# Altium footprint library USB.PcbLib: 44 footprints (part 3 of 3)
Each footprint in its own frame and in the unit in brackets; x right, y up, seen from the top. Pads: shape width x height; smd on the part's side, far side on the other; paste and mask are expansions set on the pad; w line width, h text height; cw(c..) or ccw(c..) is an arc to the next point about the centre after c.
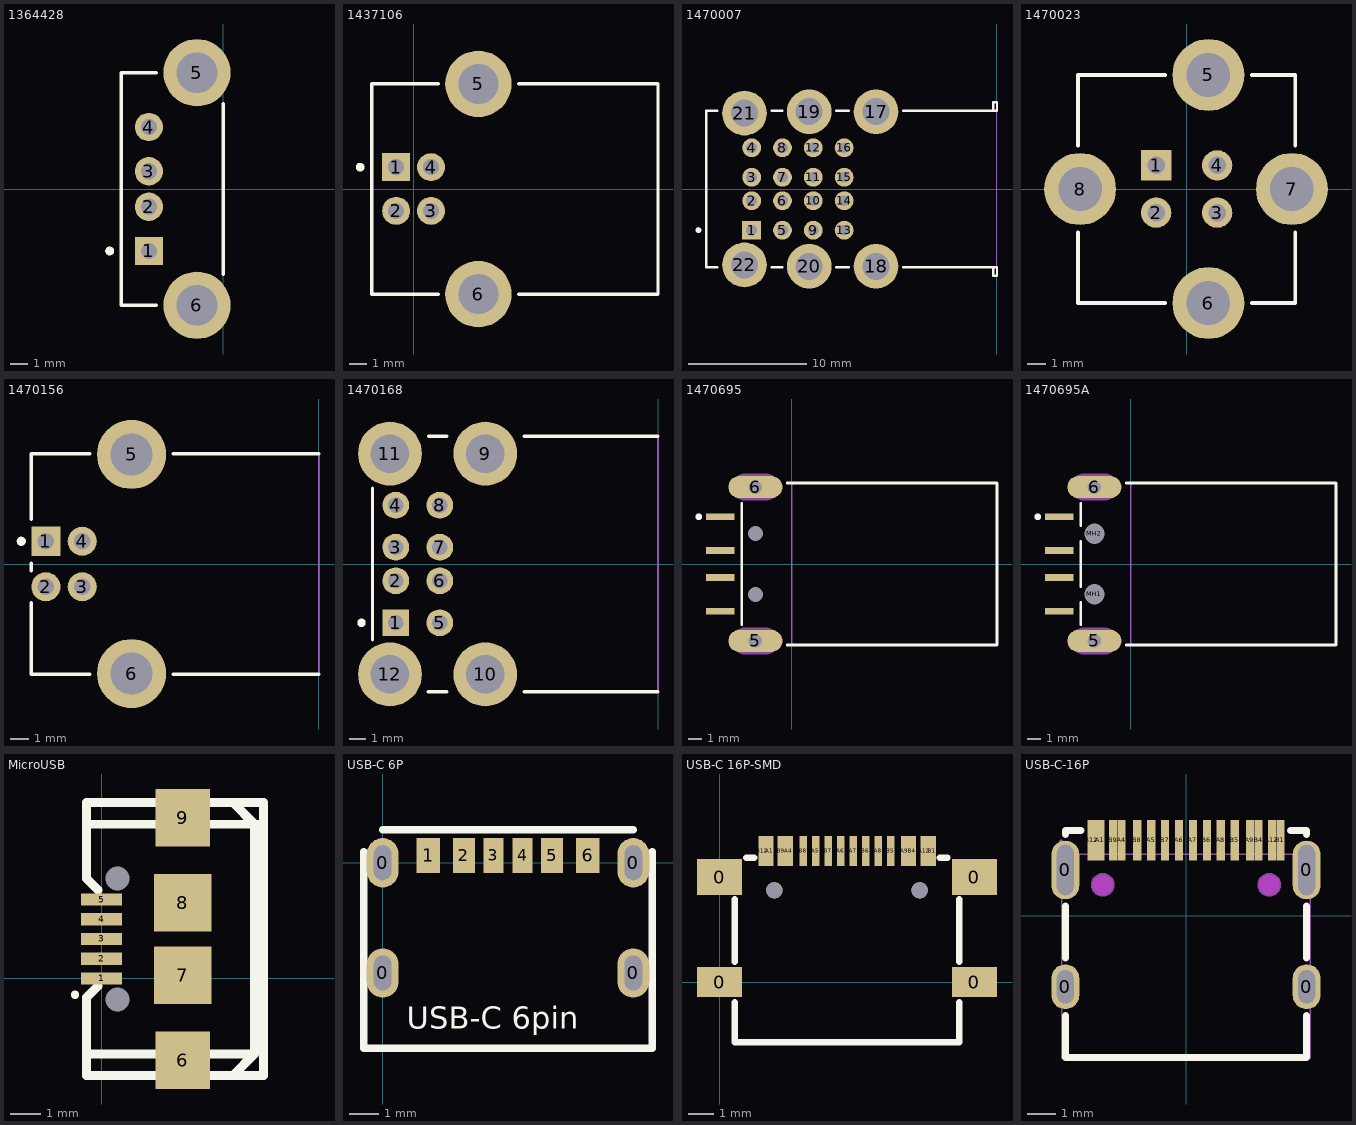
[diagram p2: the footprints below, top view; thin cyan lines are the x and y axes]

## 1364428 [mm] "Connector; USB1.1, Type A, Thru-Hole; 4 Position; Vertical"
height 15
pads (6):
  rect 1.6x1.6 hole 0.92: 1(-4.19,-3.5)
  round 1.6 hole 0.92: 2(-4.19,-1) 3(-4.19,1) 4(-4.19,3.5)
  round 3.8 hole 2.3: 5(-1.48,6.57) 6(-1.48,-6.57)
Top Overlay:
  circle w0.25: c-6.41,-3.5 r0.125
  lines w0.2: -3.78,-6.57 -5.76,-6.57 -5.76,6.57 -3.78,6.57 ; 0,-4.81 0,4.81

## 1437106 [mm] "Connector; USB1.1, Type B, Thru-Hole; 4 Position; Right Angle"
height 11.1
pads (6):
  rect 1.6x1.6 hole 0.92: 1(-1,1.25)
  round 1.6 hole 0.92: 2(-1,-1.25) 3(1,-1.25) 4(1,1.25)
  round 3.8 hole 2.3: 5(3.71,6.02) 6(3.71,-6.02)
Top Overlay:
  circle w0.25: c-3.06,1.25 r0.125
  lines w0.2: 1.41,-6.02 -2.41,-6.02 -2.41,6.02 1.41,6.02 ; 6.01,-6.02 13.99,-6.02 13.99,6.02 6.01,6.02

## 1470007 [mm] "Connector; USB1.1, Type A, Thru-Hole; 4x4x4x4 Position; Right Angle"
height 32.84
pads (22):
  rect 1.6x1.6 hole 0.92: 1(-20.85,-3.5)
  round 1.6 hole 0.92: 2(-20.85,-1) 3(-20.85,1) 4(-20.85,3.5) 5(-18.23,-3.5) 6(-18.23,-1) 7(-18.23,1) 8(-18.23,3.5) 9(-15.61,-3.5) 10(-15.61,-1) 11(-15.61,1) 12(-15.61,3.5) 13(-12.99,-3.5) 14(-12.99,-1) 15(-12.99,1) 16(-12.99,3.5)
  round 3.8 hole 2.3: 17(-10.28,6.57) 18(-10.28,-6.57) 19(-15.96,6.57) 20(-15.96,-6.57) 21(-21.46,6.45) 22(-21.46,-6.45)
Top Overlay:
  circle w0.25: c-25.37,-3.5 r0.125
  lines w0.2: -23.76,-6.65 -24.72,-6.65 -24.72,6.65 -23.76,6.65 ; -19.16,-6.65 -18.26,-6.65 ; -19.16,6.65 -18.26,6.65 ; -13.66,-6.65 -12.58,-6.65 ; -13.66,6.65 -12.58,6.65 ; -7.98,-6.65 0,-6.65 0,-7.37 -0.32,-7.37 -0.32,-6.65 ; -7.98,6.65 0,6.65 0,7.37 -0.32,7.37 -0.32,6.65
Mechanical 1:
  lines w0.1: 0,-6.65 0,6.65
  text "PCB Edge" at -0.258,-6.292 h0.2

## 1470023 [mm] "Connector; USB1.1, Type B, Thru-Hole; 4 Position; Vertical"
height 15.62
pads (8):
  rect 1.6x1.6 hole 0.92: 1(-1.61,1.25)
  round 1.6 hole 0.92: 2(-1.61,-1.25) 3(1.61,-1.25) 4(1.61,1.25)
  round 3.8 hole 2.3: 5(1.15,6.02) 6(1.15,-6.02) 7(5.56,0) 8(-5.63,0)
Top Overlay:
  lines w0.2: -5.73,-2.3 -5.73,-6.02 -1.15,-6.02 ; -5.73,2.3 -5.73,6.02 -1.15,6.02 ; 3.45,-6.02 5.73,-6.02 5.73,-2.3 ; 3.45,6.02 5.73,6.02 5.73,2.3

## 1470156 [mm] "Connector; USB1.1, Type B, Thru-Hole; 4 Position; Right Angle"
height 10.95
pads (6):
  rect 1.6x1.6 hole 0.92: 1(-15.01,1.25)
  round 1.6 hole 0.92: 2(-15.01,-1.25) 3(-13.01,-1.25) 4(-13.01,1.25)
  round 3.8 hole 2.3: 5(-10.3,6.02) 6(-10.3,-6.02)
Top Overlay:
  circle w0.25: c-16.36,1.25 r0.125
  lines w0.2: -15.82,-2.14 -15.82,-6.05 -12.6,-6.05 ; -15.82,-0.36 -15.82,0.05 ; -15.82,2.45 -15.82,6.05 -12.6,6.05 ; -8,-6.05 -0.02,-6.05 ; -8,6.05 -0.02,6.05
Mechanical 1:
  lines w0.1: 0,-6.05 0,6.05
  text "PCB Edge" at -0.325,-5.651 h0.25

## 1470168 [mm] "Connector; USB1.1, Type A, Thru-Hole; 4x4 Position; Right Angle"
height 16.8
pads (12):
  rect 1.6x1.6 hole 0.92: 1(-15.61,-3.5)
  round 1.6 hole 0.92: 2(-15.61,-1) 3(-15.61,1) 4(-15.61,3.5) 5(-12.99,-3.5) 6(-12.99,-1) 7(-12.99,1) 8(-12.99,3.5)
  round 3.8 hole 2.3: 9(-10.28,6.57) 10(-10.28,-6.57) 11(-15.96,6.57) 12(-15.96,-6.57)
Top Overlay:
  circle w0.25: c-17.65,-3.5 r0.125
  lines w0.2: -17,-4.51 -17,4.51 ; -13.68,-7.6 -12.58,-7.6 ; -13.66,7.6 -12.58,7.6 ; -7.97,-7.6 0,-7.6 ; -7.97,7.6 0,7.6
Mechanical 1:
  lines w0.1: 0,-7.6 0,7.6
  text "PCB Edge" at -0.2,-7.29 h0.2

## 1470695 [mm] "Connector; USB1.1, Type A, SM; 4 Position; Right Angle"
height 4.5
pads (8):
  rect 2.1x0.5 smd: 1(-5.3,3.5) 2(-5.3,1) 3(-5.3,-1) 4(-5.3,-3.5)
  oval 4x1.65 hole 1: 5(-2.7,-5.7) 6(-2.7,5.7)
  round 0.8 hole 1.1 unplated: MH1(-2.7,-2.25) MH2(-2.7,2.25)
Top Overlay:
  circle w0.25: c-6.9,3.5 r0.125
  lines w0.2: -3.7,-4.475 -3.7,4.475 ; -0.33,-6 15.2,-6 15.2,6 -0.33,6
Mechanical 1:
  lines w0.1: 0,-6 0,6
  lines w1: -3.45,-5.7 -1.95,-5.7 ; -3.45,5.7 -1.95,5.7
  text "PCB Edge" at 0.473,-5.173 h0.25
  text "Alert PCB fab to slot details" at -1,8.176 h0.3
  text "Slot 1x2.5mm, PTH" at -1,7.676 h0.3
  text "Assign keep-out area to slot" at -1,8.676 h0.3
  text "Mech 1 - Slot cut-out" at -1,7.176 h0.3
  text "Mech 2 - Clearance, move to internal plane if present" at -1,6.676 h0.3
Mechanical 2:
  lines w2.016: -3.45,-5.7 -1.95,-5.7 ; -3.45,5.7 -1.95,5.7

## 1470695A [mm] "Connector; USB1.1, Type A, SM; 4 Position; Right Angle"
height 4.5
pads (8):
  rect 2.1x0.5 smd: 1(-5.3,3.5) 2(-5.3,1) 3(-5.3,-1) 4(-5.3,-3.5)
  oval 4x1.65 hole 1: 5(-2.7,-5.7) 6(-2.7,5.7)
  round 1.2 hole 1.5 unplated: MH1(-2.7,-2.25) MH2(-2.7,2.25)
Top Overlay:
  circle w0.25: c-6.9,3.5 r0.125
  lines w0.2: -3.7,-4.475 -3.7,-2.83 ; -3.7,-1.68 -3.7,1.68 ; -3.7,2.83 -3.7,4.475 ; -0.33,-6 15.2,-6 15.2,6 -0.33,6
Mechanical 1:
  lines w0.1: 0,-6 0,6
  lines w1: -3.45,-5.7 -1.95,-5.7 ; -3.45,5.7 -1.95,5.7
  text "PCB Edge" at 0.473,-5.173 h0.25
  text "Alert PCB fab to slot details" at -1,8.176 h0.3
  text "Slot 1x2.5mm, PTH" at -1,7.676 h0.3
  text "Assign keep-out area to slot" at -1,8.676 h0.3
  text "Mech 1 - Slot cut-out" at -1,7.176 h0.3
  text "Mech 2 - Clearance, move to internal plane if present" at -1,6.676 h0.3
Mechanical 2:
  lines w2.016: -3.45,-5.7 -1.95,-5.7 ; -3.45,5.7 -1.95,5.7

## MicroUSB [mm] "Connector; USB1.1, Type B, SM; 4 Position; Right Angle"
height 11
pads (11):
  rect 1.35x0.4 smd mask+0.001: 1(0,0) 2(0,0.65) 3(0,1.3) 4(0,1.95) 5(0,2.6)
  rect 1.8x1.9 smd: 6(2.675,-2.7) 9(2.675,5.3)
  rect 1.9x1.9 smd: 7(2.675,0.1) 8(2.675,2.5)
  round 0 hole 0.8 unplated mask+0.001: MH1(0.525,3.3) MH2(0.525,-0.7)
Top Overlay:
  circle w0.25: c-0.881,-0.542 r0.011
  lines w0.3: -0.452,-2.495 5.04,-2.495 ; -0.452,5.094 5.334,5.08 5.04,5.094 ; -0.127,-0.254 -0.5,-0.627 -0.5,-3.209 4.326,-3.209 5.04,-2.495 ; -0.127,2.921 -0.5,3.294 -0.5,5.808 4.326,5.808 5.04,5.094 ; 3.818,5.808 5.334,5.808 5.334,-3.209 3.945,-3.209 ; 5.04,-2.495 5.04,5.094
3D body "AP2014.STEP": height 2.79, standoff -0.28, extent -0.11,-3.091 5.515,5.709

## USB-C 6P [mm]
pads (10):
  oval 1.1x1.7 hole 1.2 slot 0.6 at 0 deg: 0(0,-3.8) 0(0,0) 0(8.64,-3.8) 0(8.64,0)
  rect 0.8x1.2 smd: 1(1.57,0.254) 6(7.07,0.254)
  rect 0.76x1.2 smd: 2(2.8,0.254) 5(5.84,0.254)
  rect 0.7x1.2 smd: 3(3.82,0.254) 4(4.82,0.254)
Top Overlay:
  lines w0.254: -0.65,0.381 -0.65,-6.4 9.29,-6.4 9.29,0.381 ; 0,1.143 8.636,1.143
  text "USB-C 6pin" at 0.827,-5.715 h0.76
Mechanical 1:
3D body "USB C 6pins.step": height 3.19, standoff -1, extent -0.127,-6.617 8.813,1.283

## USB-C 16P-SMD [mm]
pads (22):
  rect 1.8x1.2 smd: 0(0,0) 0(10.14,0)
  rect 1.8x1.45 smd: 0(0,4.18) 0(10.14,4.18)
  rect 0.3x1.2 smd: A1(1.999,5.22) A4(2.761,5.22) A5(3.82,5.22) A6(4.82,5.22) A7(5.32,5.22) A8(6.32,5.22) A9(7.361,5.22) A12(8.149,5.22) B1(8.454,5.22) B4(7.666,5.22) B5(6.82,5.22) B6(5.82,5.22) B7(4.32,5.22) B8(3.32,5.22) B9(2.456,5.22) B12(1.694,5.22)
  round 0.65 hole 0.65 unplated: ""(2.18,3.65) ""(7.96,3.65)
Top Overlay:
  lines w0.254: 0.6,-0.8 0.6,-2.395 9.54,-2.395 9.54,-0.8 ; 0.6,0.8 0.6,3.3 ; 1.067,4.953 1.372,4.953 ; 8.763,4.953 9.068,4.953 ; 9.54,0.8 9.54,3.3

## USB-C-16P [mm]
pads (20):
  oval 1.001x1.6 hole 0.599 slot 1.199 at 90 deg paste+0 mask+0.051: 0(-4.321,-2.548) 0(4.321,-2.548)
  oval 1.001x2.101 hole 0.599 slot 1.801 at 90 deg paste+0 mask+0.051: 0(-4.321,1.633) 0(4.321,1.633)
  rect 0.3x1.45 smd: A1(-3.071,2.7) A4(-2.309,2.7) A5(-1.25,2.7) A6(-0.25,2.7) A7(0.25,2.7) A8(1.25,2.7) A9(2.291,2.7) A12(3.079,2.7) B1(3.384,2.7) B4(2.596,2.7) B5(1.75,2.7) B6(0.75,2.7) B7(-0.75,2.7) B8(-1.75,2.7) B9(-2.614,2.7) B12(-3.376,2.7)
Top Overlay:
  lines w0.254: -4.318,-3.579 -4.318,-5.08 4.318,-5.08 4.318,-3.579 ; -4.318,-1.516 -4.318,0.351 ; -4.318,2.913 -4.318,3.048 -3.757,3.048 ; 3.752,3.048 4.318,3.048 4.318,2.913 ; 4.318,-1.516 4.318,0.351
Keep-Out Layer:
  board cut-out: -2.629,1.102 -2.629,1.172 -2.682,1.301 -2.781,1.4 -2.91,1.453 -3.049,1.453 -3.178,1.4 -3.277,1.301 -3.33,1.172 -3.33,1.102 -3.33,1.033 -3.277,0.904 -3.178,0.805 -3.049,0.752 -2.91,0.752 -2.781,0.805 -2.682,0.904 -2.629,1.033
  board cut-out: 3.33,1.102 3.33,1.172 3.277,1.301 3.178,1.4 3.049,1.453 2.91,1.453 2.781,1.4 2.682,1.301 2.629,1.172 2.629,1.102 2.629,1.033 2.682,0.904 2.781,0.805 2.91,0.752 3.049,0.752 3.178,0.805 3.277,0.904 3.33,1.033
Mechanical 1:
  circle w0.005: c-2.979,1.102 r0.351
  circle w0.005: c2.979,1.102 r0.351
Mechanical 15:
  circle w0.051: c-2.979,1.102 r0.175
  circle w0.051: c2.979,1.102 r0.175
  region: 4.171,-2.146 4.47,-2.146 4.47,-2.946 4.171,-2.946
  region: -4.47,-2.146 -4.171,-2.146 -4.171,-2.946 -4.47,-2.946
  region: 4.171,2.156 4.47,2.156 4.47,1.107 4.171,1.107
  region: -4.47,2.156 -4.171,2.156 -4.171,1.107 -4.47,1.107
  region: -4.409,2.647 -4.409,2.672 -4.445,2.708 -4.496,2.708 -4.531,2.672 -4.531,2.647 -4.531,2.621 -4.496,2.586 -4.445,2.586 -4.409,2.621
  region: -2.565,1.102 -2.565,1.185 -2.628,1.337 -2.745,1.453 -2.897,1.516 -3.062,1.516 -3.214,1.453 -3.33,1.337 -3.393,1.185 -3.393,1.102 -3.393,1.02 -3.33,0.868 -3.214,0.751 -3.062,0.688 -2.897,0.688 -2.745,0.751 -2.628,0.868 -2.565,1.02
  region: 3.393,1.102 3.393,1.185 3.33,1.337 3.214,1.453 3.062,1.516 2.897,1.516 2.745,1.453 2.628,1.337 2.565,1.185 2.565,1.102 2.565,1.02 2.628,0.868 2.745,0.751 2.897,0.688 3.062,0.688 3.214,0.751 3.33,0.868 3.393,1.02
  lines w0.051: -4.445,-5.1 -4.445,2.2 4.455,2.2 4.455,-5.1 -4.445,-5.1
3D body "3D_PCB1_2023-04-26.step": height 3.29, standoff -1, extent -4.495,-5.018 4.445,2.732